# Altium footprint library PcbLib.PcbLib: 285 footprints (part 17 of 18)
Each footprint in its own frame and in the unit in brackets; x right, y up, seen from the top. Pads: shape width x height; smd on the part's side, far side on the other; paste and mask are expansions set on the pad; w line width, h text height; cw(c..) or ccw(c..) is an arc to the next point about the centre after c.
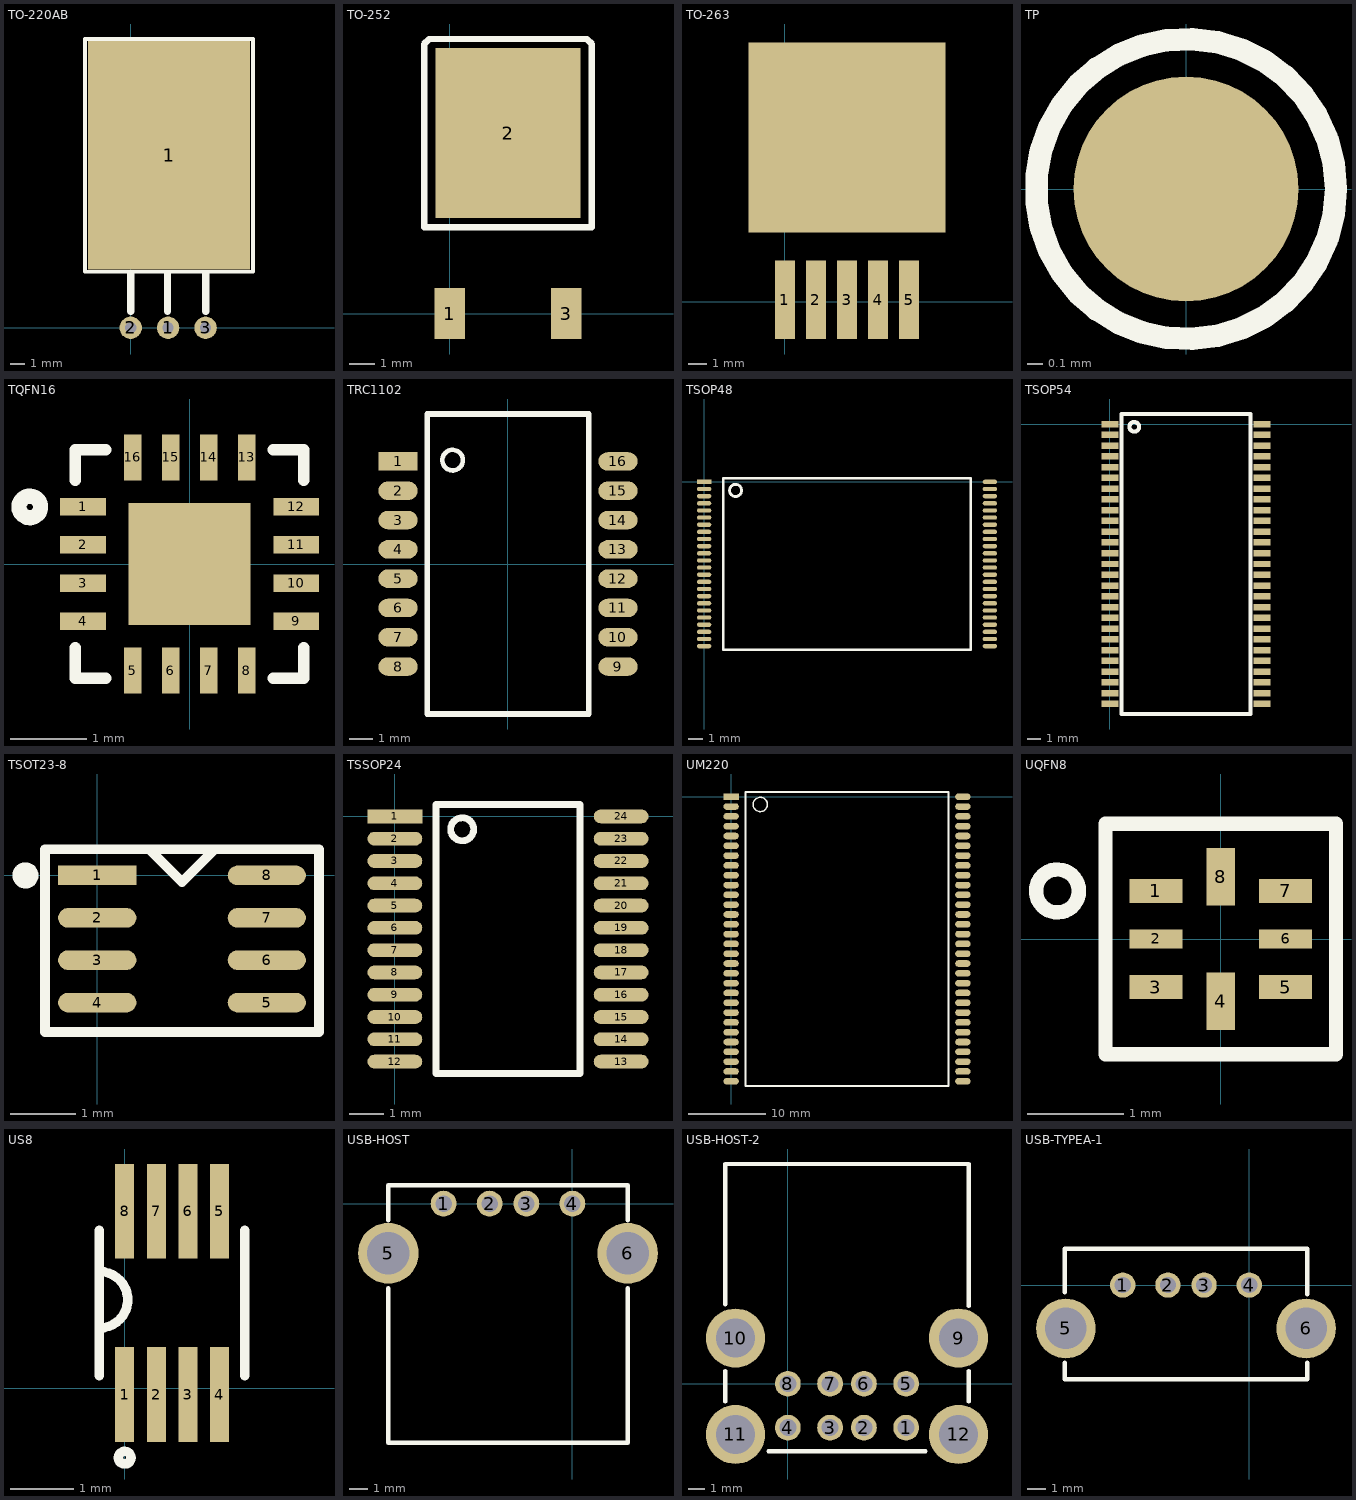
[diagram p16: the footprints below, top view; thin cyan lines are the x and y axes]

## TO-220AB [mil]
pads (4):
  round 60 hole 30: 1(100,0) 2(0,0) 3(200,0)
  rect 433.07x610.24 smd: 1(102.36,460.63)
Top Overlay:
  lines w10: -122.05,149.61 326.77,149.61 326.77,771.65 318.9,771.65 -114.17,771.65 -122.05,771.65 -122.05,149.61
  lines w19.68: 0,43.31 0,141.73 ; 98.43,43.31 98.43,141.73 ; 200.79,43.31 200.79,141.73

## TO-252 [mm]
pads (3):
  rect 1.2x2 smd: 1(0,0) 3(4.6,0)
  rect 5.7x6.7 smd: 2(2.3,7.1)
Top Overlay:
  lines w0.254: -1,3.4 -1,10.6 -0.8,10.8 -0.6,10.8 5.2,10.8 5.4,10.8 5.6,10.6 5.6,3.4 -1,3.4

## TO-263 [mm]
pads (6):
  rect 1.1x4.3 smd: 1(0,0.1) 2(1.7,0.1) 3(3.4,0.1) 4(5.1,0.1) 5(6.8,0.1)
  rect 10.8x10.4 smd: ""(3.4,9)

## TP [mm]
pads (1):
  round 1.5 smd paste-1.5: ""(0,0)
Top Overlay:
  circle w0.15: c0,0 r1

## TQFN16 [mm]
pads (17):
  rect 0.6x0.23 smd: 1(-1.4,0.75) 2(-1.4,0.25) 3(-1.4,-0.25) 4(-1.4,-0.75) 9(1.4,-0.75) 10(1.4,-0.25) 11(1.4,0.25) 12(1.4,0.75)
  rect 0.23x0.6 smd: 5(-0.75,-1.4) 6(-0.25,-1.4) 7(0.25,-1.4) 8(0.75,-1.4) 13(0.75,1.4) 14(0.25,1.4) 15(-0.25,1.4) 16(-0.75,1.4)
  rect 1.6x1.6 smd: ""(0,0)
Top Overlay:
  circle w0.2: c-2.1,0.75 r0.141
  lines w0.15: -1.5,-1.1 -1.5,-1.5 -1.1,-1.5 ; -1.5,1.1 -1.5,1.5 -1.1,1.5 ; 1.1,-1.5 1.5,-1.5 1.5,-1.1 ; 1.1,1.5 1.5,1.5 1.5,1.1

## TRC1102 [mm]
pads (16):
  rect 1.7x0.8 smd: 1(-4.765,4.445)
  oval 1.7x0.8 smd: 2(-4.765,3.175) 3(-4.765,1.905) 4(-4.765,0.635) 5(-4.765,-0.635) 6(-4.765,-1.905) 7(-4.765,-3.175) 8(-4.765,-4.445) 9(4.765,-4.445) 10(4.765,-3.175) 11(4.765,-1.905) 12(4.765,-0.635) 13(4.765,0.635) 14(4.765,1.905) 15(4.765,3.175) 16(4.765,4.445)
Top Overlay:
  circle w0.2: c-2.4,4.5 r0.447
  lines w0.254: -3.5,-6.5 -3.5,4.5 -3.5,6.5 3.5,6.5 3.5,-6.5 -3.5,-6.5

## TSOP48 [mm]
pads (48):
  rect 1x0.3 smd: 1(0,0)
  oval 1x0.3 smd: 2(0,-0.5) 3(0,-1) 4(0,-1.5) 5(0,-2) 6(0,-2.5) 7(0,-3) 8(0,-3.5) 9(0,-4) 10(0,-4.5) 11(0,-5) 12(0,-5.5) 13(0,-6) 14(0,-6.5) 15(0,-7) 16(0,-7.5) 17(0,-8) 18(0,-8.5) 19(0,-9) 20(0,-9.5) 21(0,-10) 22(0,-10.5) 23(0,-11) 24(0,-11.5) 25(20,-11.5) 26(20,-11) 27(20,-10.5) 28(20,-10) 29(20,-9.5) 30(20,-9) 31(20,-8.5) 32(20,-8) 33(20,-7.5) 34(20,-7) 35(20,-6.5) 36(20,-6) 37(20,-5.5) 38(20,-5) 39(20,-4.5) 40(20,-4) 41(20,-3.5) 42(20,-3) 43(20,-2.5) 44(20,-2) 45(20,-1.5) 46(20,-1) 47(20,-0.5) 48(20,0)
Top Overlay:
  circle w0.2: c2.2,-0.6 r0.424
  lines w0.2: 9.7,0.25 10.7,0.25 ; 9.875,0.25 1.335,0.25 1.335,-11.75 18.665,-11.75 18.665,0.25 10.125,0.25

## TSOP54 [mil]
pads (54):
  rect 50x19 smd: 1(0,0) 2(0,-31.5) 3(0,-62.99) 4(0,-94.49) 5(0,-125.99) 6(0,-157.48) 7(0,-188.98) 8(0,-220.47) 9(0,-251.97) 10(0,-283.47) 11(0,-314.96) 12(0,-346.46) 13(0,-377.95) 14(0,-409.45) 15(0,-440.95) 16(0,-472.44) 17(0,-503.94) 18(0,-535.43) 19(0,-566.93) 20(0,-598.43) 21(0,-629.92) 22(0,-661.42) 23(0,-692.91) 24(0,-724.41) 25(0,-755.91) 26(0,-787.4) 27(0,-818.9) 28(444.88,-818.9) 29(444.88,-787.4) 30(444.88,-755.91) 31(444.88,-724.41) 32(444.88,-692.91) 33(444.88,-661.42) 34(444.88,-629.92) 35(444.88,-598.43) 36(444.88,-566.93) 37(444.88,-535.43) 38(444.88,-503.94) 39(444.88,-472.44) 40(444.88,-440.95) 41(444.88,-409.45) 42(444.88,-377.95) 43(444.88,-346.46) 44(444.88,-314.96) 45(444.88,-283.47) 46(444.88,-251.97) 47(444.88,-220.47) 48(444.88,-188.98) 49(444.88,-157.48) 50(444.88,-125.99) 51(444.88,-94.49) 52(444.88,-62.99) 53(444.88,-31.5) 54(444.88,0)
Top Overlay:
  circle w11.81: c70.87,-7.87 r14.2
  lines w11.81: 271.65,-848.43 354.33,-848.43 ; 273.62,-848.43 33.46,-848.43 33.46,29.53 273.62,29.53 352.36,29.53 411.42,29.53 411.42,-848.43 352.36,-848.43

## TSOT23-8 [mm]
pads (8):
  rect 1.2x0.3 smd: 1(0,0)
  oval 1.2x0.3 smd: 2(0,-0.65) 3(0,-1.3) 4(0,-1.95) 5(2.6,-1.95) 6(2.6,-1.3) 7(2.6,-0.65) 8(2.6,0)
Top Overlay:
  circle w0.2: c-1.1,0 r0.1
  lines w0.15: 0.8,0.4 1.3,-0.1 1.8,0.4 ; -0.8,-2.4 -0.8,0.4 3.4,0.4 3.4,-2.4 -0.8,-2.4

## TSSOP24 [mm]
pads (24):
  rect 1.6x0.4 smd: 1(0,0)
  oval 1.6x0.4 smd: 2(0,-0.65) 3(0,-1.3) 4(0,-1.95) 5(0,-2.6) 6(0,-3.25) 7(0,-3.9) 8(0,-4.55) 9(0,-5.2) 10(0,-5.85) 11(0,-6.5) 12(0,-7.15) 13(6.6,-7.15) 14(6.6,-6.5) 15(6.6,-5.85) 16(6.6,-5.2) 17(6.6,-4.55) 18(6.6,-3.9) 19(6.6,-3.25) 20(6.6,-2.6) 21(6.6,-1.95) 22(6.6,-1.3) 23(6.6,-0.65) 24(6.6,0)
Top Overlay:
  circle w0.2: c1.965,-0.375 r0.335
  lines w0.2: 1.2,-7.5 5.4,-7.5 5.4,0.35 1.2,0.35 1.2,-7.5

## UM220 [mm]
pads (60):
  rect 2x0.85 smd: 1(0,0)
  oval 2x0.85 smd: 2(0,-1.27) 3(0,-2.54) 4(0,-3.81) 5(0,-5.08) 6(0,-6.35) 7(0,-7.62) 8(0,-8.89) 9(0,-10.16) 10(0,-11.43) 11(0,-12.7) 12(0,-13.97) 13(0,-15.24) 14(0,-16.51) 15(0,-17.78) 16(0,-19.05) 17(0,-20.32) 18(0,-21.59) 19(0,-22.86) 20(0,-24.13) 21(0,-25.4) 22(0,-26.67) 23(0,-27.94) 24(0,-29.21) 25(0,-30.48) 26(0,-31.75) 27(0,-33.02) 28(0,-34.29) 29(0,-35.56) 30(0,-36.83) 31(30,-36.83) 32(30,-35.56) 33(30,-34.29) 34(30,-33.02) 35(30,-31.75) 36(30,-30.48) 37(30,-29.21) 38(30,-27.94) 39(30,-26.67) 40(30,-25.4) 41(30,-24.13) 42(30,-22.86) 43(30,-21.59) 44(30,-20.32) 45(30,-19.05) 46(30,-17.78) 47(30,-16.51) 48(30,-15.24) 49(30,-13.97) 50(30,-12.7) 51(30,-11.43) 52(30,-10.16) 53(30,-8.89) 54(30,-7.62) 55(30,-6.35) 56(30,-5.08) 57(30,-3.81) 58(30,-2.54) 59(30,-1.27) 60(30,0)
Top Overlay:
  circle w0.2: c3.778,-1 r0.922
  lines w0.254: 14.5,0.635 15.7,0.635 ; 14.683,0.635 1.889,0.635 1.889,-37.465 28.111,-37.465 28.111,0.635 15.318,0.635

## UQFN8 [mm]
pads (8):
  rect 0.55x0.25 smd: 1(-0.675,0.5) 3(-0.675,-0.5) 5(0.675,-0.5) 7(0.675,0.5)
  rect 0.55x0.2 smd: 2(-0.675,0) 6(0.675,0)
  rect 0.3x0.6 smd: 4(0,-0.65) 8(0,0.65)
Top Overlay:
  circle w0.15: c-1.7,0.5 r0.224
  lines w0.15: -1.2,-1.2 1.2,-1.2 1.2,1.2 0,1.2 -1.2,1.2 -1.2,-1.2

## US8 [mm]
pads (8):
  rect 0.3x1.5 smd: 1(0,-0.1) 2(0.5,-0.1) 3(1,-0.1) 4(1.5,-0.1) 5(1.5,2.8) 6(1,2.8) 7(0.5,2.8) 8(0,2.8)
Top Overlay:
  circle w0.15: c0,-1.1 r0.1
  lines w0.15: -0.4,0.2 -0.4,2.5 ; -0.4,0.953 ccw(c-0.4,1.4) -0.4,1.847 ; 1.9,0.2 1.9,2.5

## USB-HOST [mm]
pads (6):
  round 1.4 hole 0.9: 1(-7,0) 2(-4.5,0) 3(-2.5,0) 4(0,0)
  round 3.3 hole 2.3: 5(-10,-2.7) 6(3,-2.7)
Top Overlay:
  lines w0.254: -10,-4.6 -10,-13 3,-13 3,-4.6 ; -10,-0.9 -10,1 3,1 3,-0.9

## USB-HOST-2 [mm]
pads (12):
  round 1.524 hole 1: 1(7,-2.6) 2(4.5,-2.6) 3(2.5,-2.6) 4(0,-2.6) 5(7,0) 6(4.5,0) 7(2.5,0) 8(0,0)
  round 3.5 hole 2.3: 9(10.1,2.7) 10(-3.1,2.7) 11(-3.1,-3) 12(10.1,-3)
Top Overlay:
  lines w0.254: -3.7,-1.05 -3.7,0.75 ; -3.7,4.7 -3.7,13 10.7,13 10.7,4.6 ; -1.15,-4 0,-4 8.15,-4 ; 10.7,-1.05 10.7,0.75

## USB-TYPEA-1 [mm]
pads (6):
  round 1.4 hole 0.9: 1(-7,0) 2(-4.5,0) 3(-2.5,0) 4(0,0)
  round 3.3 hole 2.3: 5(-10.15,-2.4) 6(3.15,-2.4)
Top Overlay:
  lines w0.254: -10.2,-4.3 -10.2,-5.2 3.2,-5.2 3.2,-4.3 ; -10.2,-0.4 -10.2,2 3.2,2 3.2,-0.5